# EAGLE library part ADAU1401AWBSTZ (library Deegou_IC)
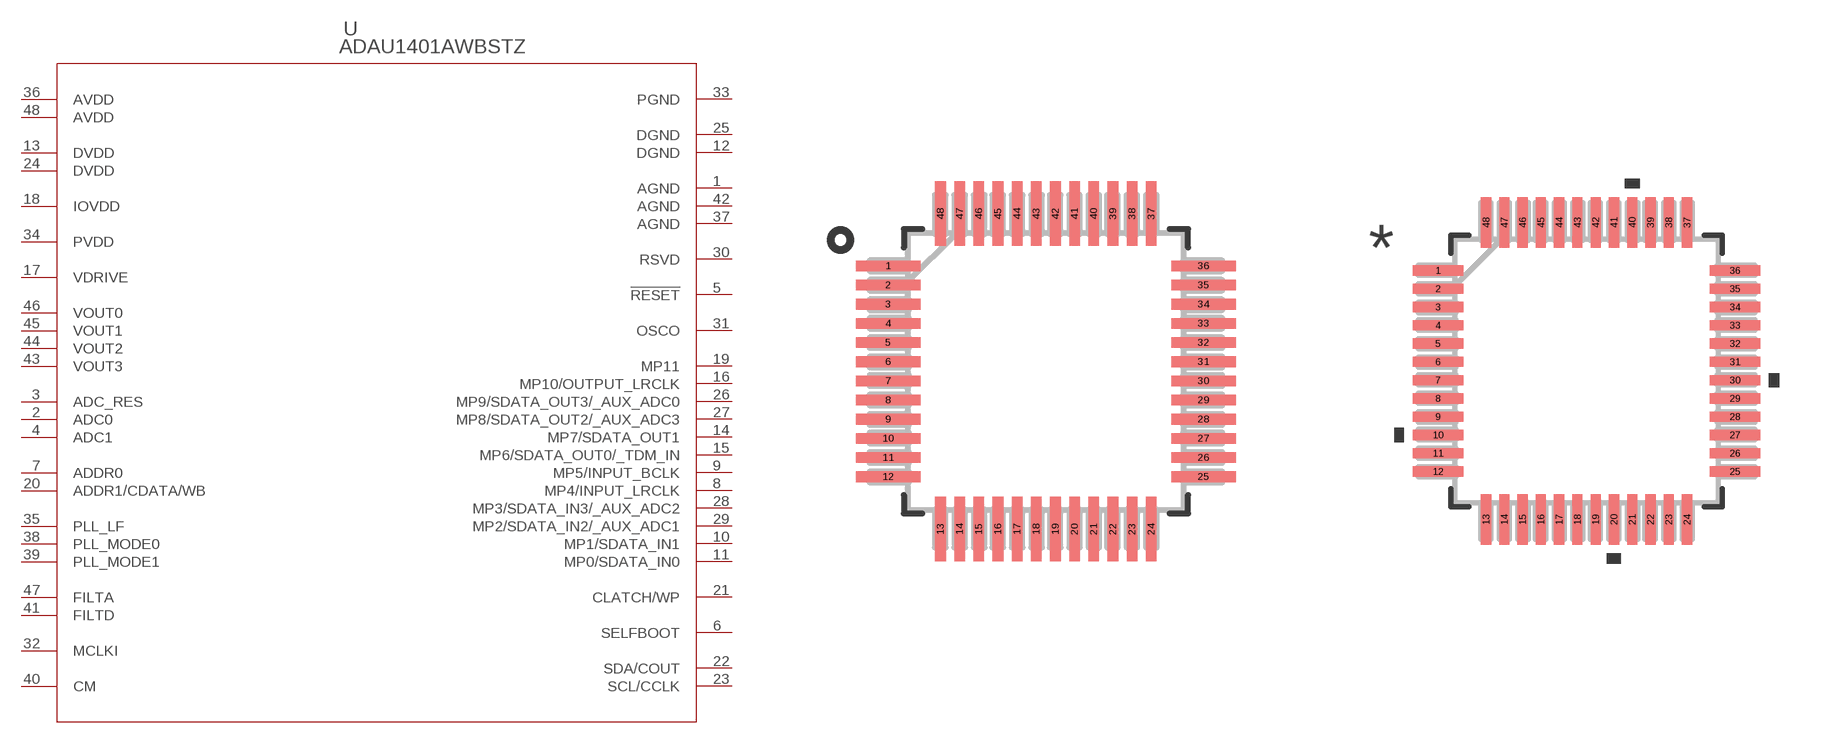
[diagram p86: symbol with the pads of ST_48; footprints ST_48, ST_48-L]

Designator prefix U

## ADAU1401AWBSTZ (MANUFACTURER_PART_NUMBER: ADAU1401AWBSTZ; VENDOR: Analog Devices Inc)  [ST_48]
1  AGND  pas
2  ADC0  pas
3  ADC_RES  pas
4  ADC1  pas
5  !RESET  pas
6  SELFBOOT  pas
7  ADDR0  pas
8  MP4/INPUT_LRCLK  pas
9  MP5/INPUT_BCLK  pas
10  MP1/SDATA_IN1  pas
11  MP0/SDATA_IN0  pas
12  DGND  pas
13  DVDD  pas
14  MP7/SDATA_OUT1  pas
15  MP6/SDATA_OUT0/_TDM_IN  pas
16  MP10/OUTPUT_LRCLK  pas
17  VDRIVE  pas
18  IOVDD  pas
19  MP11  pas
20  ADDR1/CDATA/WB  pas
21  CLATCH/WP  pas
22  SDA/COUT  pas
23  SCL/CCLK  pas
24  DVDD  pas
25  DGND  pas
26  MP9/SDATA_OUT3/_AUX_ADC0  pas
27  MP8/SDATA_OUT2/_AUX_ADC3  pas
28  MP3/SDATA_IN3/_AUX_ADC2  pas
29  MP2/SDATA_IN2/_AUX_ADC1  pas
30  RSVD  pas
31  OSCO  pas
32  MCLKI  pas
33  PGND  pas
34  PVDD  pas
35  PLL_LF  pas
36  AVDD  pas
37  AGND  pas
38  PLL_MODE0  pas
39  PLL_MODE1  pas
40  CM  pas
41  FILTD  pas
42  AGND  pas
43  VOUT3  pas
44  VOUT2  pas
45  VOUT1  pas
46  VOUT0  pas
47  FILTA  pas
48  AVDD  pas

## ADAU1401AWBSTZST_48-L (MANUFACTURER_PART_NUMBER: ADAU1401AWBSTZ; VENDOR: Analog Devices Inc)  [ST_48-L]
Pads as for ST_48

## ADAU1401AWBSTZST_48-M (MANUFACTURER_PART_NUMBER: ADAU1401AWBSTZ; VENDOR: Analog Devices Inc)  [ST_48-M]
Pads as for ST_48

## Footprint ST_48 (pad centres in mm)
smd 1.676 x 0.279: 1 -4.115,2.75; 2 -4.115,2.25; 3 -4.115,1.75; 4 -4.115,1.25; 5 -4.115,0.75; 6 -4.115,0.25; 7 -4.115,-0.25; 8 -4.115,-0.75; 9 -4.115,-1.25; 10 -4.115,-1.75; 11 -4.115,-2.25; 12 -4.115,-2.75; 25 4.115,-2.75; 26 4.115,-2.25; 27 4.115,-1.75; 28 4.115,-1.25; 29 4.115,-0.75; 30 4.115,-0.25; 31 4.115,0.25; 32 4.115,0.75; 33 4.115,1.25; 34 4.115,1.75; 35 4.115,2.25; 36 4.115,2.75
smd 0.279 x 1.676: 13 -2.75,-4.115; 14 -2.25,-4.115; 15 -1.75,-4.115; 16 -1.25,-4.115; 17 -0.75,-4.115; 18 -0.25,-4.115; 19 0.25,-4.115; 20 0.75,-4.115; 21 1.25,-4.115; 22 1.75,-4.115; 23 2.25,-4.115; 24 2.75,-4.115; 37 2.75,4.115; 38 2.25,4.115; 39 1.75,4.115; 40 1.25,4.115; 41 0.75,4.115; 42 0.25,4.115; 43 -0.25,4.115; 44 -0.75,4.115; 45 -1.25,4.115; 46 -1.75,4.115; 47 -2.25,4.115; 48 -2.75,4.115

## Footprint ST_48-L (pad centres in mm)
smd 1.372 x 0.279: 1 -4.064,2.75; 2 -4.064,2.25; 3 -4.064,1.75; 4 -4.064,1.25; 5 -4.064,0.75; 6 -4.064,0.25; 7 -4.064,-0.25; 8 -4.064,-0.75; 9 -4.064,-1.25; 10 -4.064,-1.75; 11 -4.064,-2.25; 12 -4.064,-2.75; 25 4.064,-2.75; 26 4.064,-2.25; 27 4.064,-1.75; 28 4.064,-1.25; 29 4.064,-0.75; 30 4.064,-0.25; 31 4.064,0.25; 32 4.064,0.75; 33 4.064,1.25; 34 4.064,1.75; 35 4.064,2.25; 36 4.064,2.75
smd 0.279 x 1.372: 13 -2.75,-4.064; 14 -2.25,-4.064; 15 -1.75,-4.064; 16 -1.25,-4.064; 17 -0.75,-4.064; 18 -0.25,-4.064; 19 0.25,-4.064; 20 0.75,-4.064; 21 1.25,-4.064; 22 1.75,-4.064; 23 2.25,-4.064; 24 2.75,-4.064; 37 2.75,4.064; 38 2.25,4.064; 39 1.75,4.064; 40 1.25,4.064; 41 0.75,4.064; 42 0.25,4.064; 43 -0.25,4.064; 44 -0.75,4.064; 45 -1.25,4.064; 46 -1.75,4.064; 47 -2.25,4.064; 48 -2.75,4.064

## Footprint ST_48-M (pad centres in mm)
smd 1.981 x 0.279: 1 -4.166,2.75; 2 -4.166,2.25; 3 -4.166,1.75; 4 -4.166,1.25; 5 -4.166,0.75; 6 -4.166,0.25; 7 -4.166,-0.25; 8 -4.166,-0.75; 9 -4.166,-1.25; 10 -4.166,-1.75; 11 -4.166,-2.25; 12 -4.166,-2.75; 25 4.166,-2.75; 26 4.166,-2.25; 27 4.166,-1.75; 28 4.166,-1.25; 29 4.166,-0.75; 30 4.166,-0.25; 31 4.166,0.25; 32 4.166,0.75; 33 4.166,1.25; 34 4.166,1.75; 35 4.166,2.25; 36 4.166,2.75
smd 0.279 x 1.981: 13 -2.75,-4.166; 14 -2.25,-4.166; 15 -1.75,-4.166; 16 -1.25,-4.166; 17 -0.75,-4.166; 18 -0.25,-4.166; 19 0.25,-4.166; 20 0.75,-4.166; 21 1.25,-4.166; 22 1.75,-4.166; 23 2.25,-4.166; 24 2.75,-4.166; 37 2.75,4.166; 38 2.25,4.166; 39 1.75,4.166; 40 1.25,4.166; 41 0.75,4.166; 42 0.25,4.166; 43 -0.25,4.166; 44 -0.75,4.166; 45 -1.25,4.166; 46 -1.75,4.166; 47 -2.25,4.166; 48 -2.75,4.166